# Altium footprint library Wurth.PcbLib: 2 footprints
Each footprint in its own frame and in the unit in brackets; x right, y up, seen from the top. Pads: shape width x height; smd on the part's side, far side on the other; paste and mask are expansions set on the pad; w line width, h text height; cw(c..) or ccw(c..) is an arc to the next point about the centre after c.
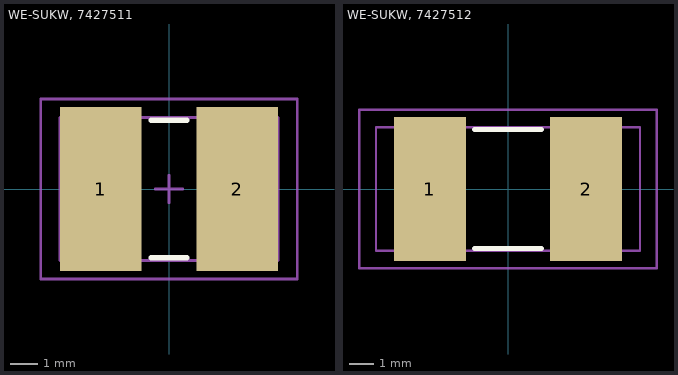
[diagram p0: the footprints below, top view; thin cyan lines are the x and y axes]

## WE-SUKW, 7427511 [mm] "Inductor, 2-Leads, Body 5,5x5,0mm"
height 5.1
pads (2):
  rect 3x6 smd: 1(-2.5,0) 2(2.5,0)
Top Overlay:
  lines w0.2: -0.65,-2.525 0.65,-2.525 ; -0.65,2.525 0.65,2.525
Mechanical 13:
  lines w0.1: -4,-2.625 -4,2.625 4,2.625 4,-2.625 -4,-2.625
Mechanical 15:
  lines w0.1: -0.5,0 0.5,0 ; 0,-0.5 0,0.5 ; -4.7,-3.3 -4.7,3.3 4.7,3.3 4.7,-3.3 -4.7,-3.3
3D body "7427511.stp": height 4.83, standoff -0.01, extent -4,-2.5 4,2.5

## WE-SUKW, 7427512 [mm] "Inductor, 2-Leads, Body 8,5x4,65mm"
height 5.5
pads (2):
  rect 3x6 smd: 1(-3.25,0) 2(3.25,0)
Top Overlay:
  lines w0.2: -1.4,-2.475 1.4,-2.475 ; -1.4,2.475 1.4,2.475
Mechanical 13:
  lines w0.1: -5.5,-2.575 -5.5,2.575 5.5,2.575 5.5,-2.575 -5.5,-2.575
Mechanical 15:
  lines w0.1: -6.2,-3.3 -6.2,3.3 6.2,3.3 6.2,-3.3 -6.2,-3.3
  text ".Designator" at -2.9,-0.4 h1.5
3D body "STEP-7427512-rev1.stp": height 5.25, standoff 0, extent -5.5,-2.325 5.5,2.325